# EAGLE library part B10PS-VH (library con-JST VH)
JST VH Series header 3.96mm pitch disconnectable crimp style connectors, horizontal (side entry type), 10 pins
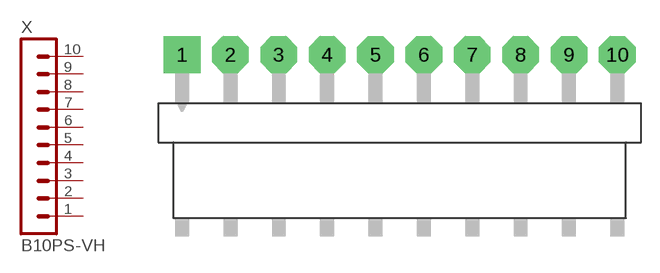
[diagram p10: symbol with the pads of B10PS-VH; footprint B10PS-VH]

Designator prefix X

## B10PS-VH  [B10PS-VH]
1  1  pas
2  2  pas
3  3  pas
4  4  pas
5  5  pas
6  6  pas
7  7  pas
8  8  pas
9  9  pas
10  10  pas

## Footprint B10PS-VH (pad centres in mm)
JST VH Series header 3.96mm pitch disconnectable crimp style connectors, horizontal (side entry type), 10 pins
drill 1.7 pad 3 square: 1 -17.82,0
drill 1.7 pad 3 octagon: 2 -13.86,0; 3 -9.9,0; 4 -5.94,0; 5 -1.98,0; 6 1.98,0; 7 5.94,0; 8 9.9,0; 9 13.86,0; 10 17.82,0